# EAGLE library part ADE0404 (library ADE0404)
4 way extended actuator DIL switch,0.4VA 4 Way Through Hole DIP Switch 4P Source: Datasheet <http://www.te.com/commerce/DocumentDelivery/DDEController?Action=showdoc&DocId=Customer Drawing1825057R1pdfEnglishENG_CD_1825057_R1.pdf1825057-3>
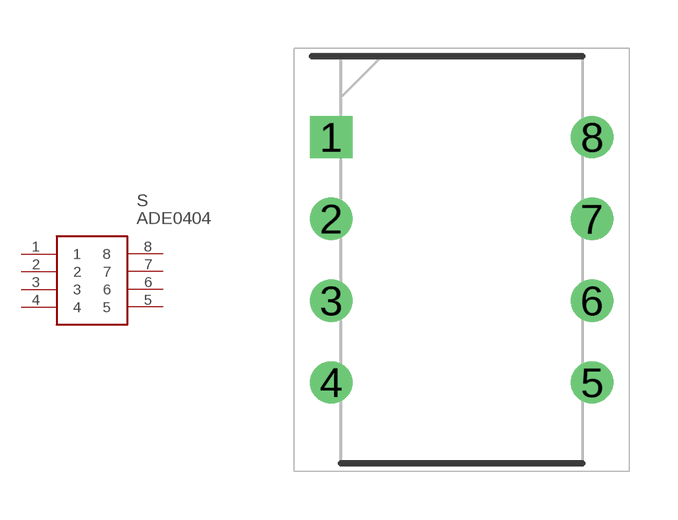
[diagram p0: symbol with the pads of DIP810W61P254L1214H485Q8N; footprint DIP810W61P254L1214H485Q8N]

Designator prefix S

## ADE0404 (Arrow_Part_Number: ADE0404; Arrow_Price-Stock: https://www.arrow.com/en/products/ade0404/te-connectivity; Description: 4 way extended actuator DIL switch,0.4VA 4 Way Through Hole DIP Switch 4P; Height: 4.85mm; Manufacturer_Name: TE Connectivity; Manufacturer_Part_Number: ADE0404; Mouser_Part_Number: 506-ADE0404; Mouser_Price-Stock: https://www.mouser.co.uk/ProductDetail/TE-Connectivity-Alcoswitch/ADE0404?qs=S8IssprC7lESqzJXINJCvQ%3D%3D)  [DIP810W61P254L1214H485Q8N]
1  1
2  2
3  3
4  4
5  5
6  6
7  7
8  8

## Footprint DIP810W61P254L1214H485Q8N (pad centres in mm)
ADE0404/
drill 0.81 pad 1.21 square: 1 -4.05,3.81
drill 0.81 pad 1.21: 2 -4.05,1.27; 3 -4.05,-1.27; 4 -4.05,-3.81; 5 4.05,-3.81; 6 4.05,-1.27; 7 4.05,1.27; 8 4.05,3.81